# Altium integrated library SwitchingRegulator.IntLib: 17 symbols
Pins are listed as number, name and electrical type; pins without a type are passive.

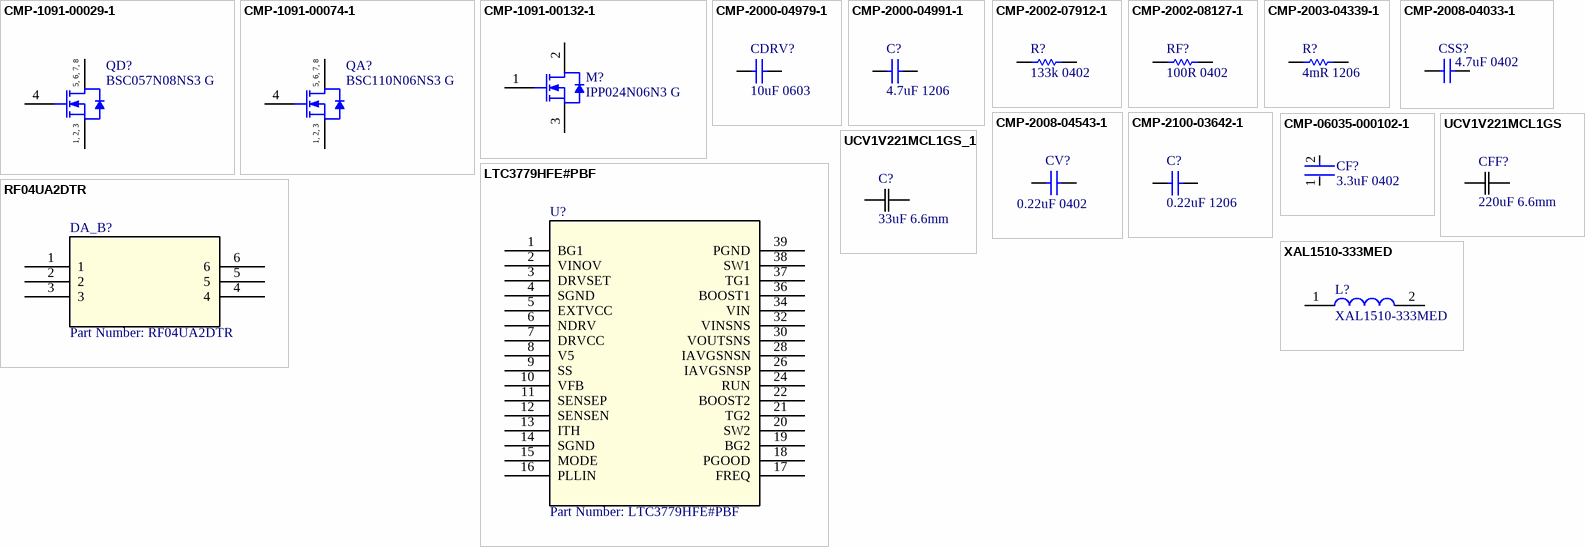
[diagram p0: symbols CMP-1091-00029-1 to XAL1510-333MED]

## CMP-1091-00029-1
designator QD?, comment BSC057N08NS3 G
N-Channel OptiMOS 3 Power-Transistor, 80 V VDS, 100 A ID, -55 to 150 degC, PG-TDSON-8-1, Reel, Green; Manufacturer: Infineon; Green: TRUE; Ptot (max): 114Â W; RDS (on) (max): 5.7Â mOhm; RthJC (max): 1.1Â K/W; QG: 42Â nC; Polarity: N; RthJA (max): 62Â K/W; IDpuls (max): 400Â A; VGS(th) (min): 2Â V; VGS(th) (max): 3.5Â V; VDS (max): 80Â V; ID (max): 100Â A; ComponentLink1Description: Manufacturer URL; DatasheetVersion: Rev. 2.4; ComponentLink3Description: Package Specification; PartNumber: BSC057N08NS3 G; PackageReference: PG-TDSON-8-1; PackageDescription: 8-Pin Plastic (Green) Thin Dual Small Outline Non-Leaded Package, 5.15 x 5.9 mm Body, 1.27 mm Pitch; Mounting Technology: Surface Mount; Packing: Reel; Halogen-free: TRUE; ComponentLink3URL: http://www.infineon.com/cms/packages/SMD_-_Surface_Mounted_Devices/P-PG-TDSON/P-PG-TDSON-08-01x_2x_3.html?__locale=en; ComponentLink2URL: http://www.infineon.com/dgdl/BSC057N08NS3G_rev2.4.pdf?folderId=db3a304313b8b5a60113cee8763b02d7&fileId=db3a30431add1d95011ae803c9345616; ComponentLink2Description: Datasheet; ComponentLink1URL: http://www.infineon.com/; Rth: 1.1Â K/W; Manufacturer Part Number: BSC057N08NS3G
footprint INF-PG-TDSON-8-1_V (TDSON, 8-Leads, Body 6.15x5.15mm, Pitch 1.27mm)
pins: 1 SOURCE, 2 SOURCE, 3 SOURCE, 4 GATE, 5 DRAIN, 6 DRAIN, 7 DRAIN, 8 DRAIN
text: 5, 6, 7, 8; 1, 2, 3

## CMP-1091-00074-1
designator QA?, comment BSC110N06NS3 G
N-Channel OptiMOS 3 Power-Transistor, 60 V VDS, 50 A ID, -55 to 150 degC, PG-TDSON-8-1, Reel, Green; Manufacturer: Infineon; RDS (on) (max): 11Â mOhm; ID (max): 50Â A; VGS(th) (max): 4Â V; RthJA (max): 62 K/W; Ptot (max): 50Â W; VGS(th) (min): 2Â V; VDS (max): 60Â V; QG: 25Â nC; IDpuls (max): 200Â A; Polarity: N; Rth: 2.5Â K/W; Green: TRUE; Packing: Reel; DatasheetVersion: Rev. 2.3; ComponentLink2URL: http://www.infineon.com/dgdl/BSC110N06NS3_Rev2.3.pdf?folderId=db3a30431ddc9372011ebafa04517f8b&fileId=db3a30431ddc9372011ebb0be43c7fe6; ComponentLink1Description: Manufacturer URL; PackageDescription: 8-Pin Plastic (Green) Thin Dual Small Outline Non-Leaded Package, 5.15 x 5.9 mm Body, 1.27 mm Pitch; ComponentLink3Description: Package Specification; PackageReference: PG-TDSON-8-1; ComponentLink1URL: http://www.infineon.com/; ComponentLink3URL: http://www.infineon.com/cms/packages/SMD_-_Surface_Mounted_Devices/P-PG-TDSON/P-PG-TDSON-08-01x_2x_3.html?__locale=en; ComponentLink2Description: Datasheet; Halogen-free: TRUE; PartNumber: BSC110N06NS3 G; Mounting Technology: Surface Mount; RthJC (max): 2.5Â K/W; Manufacturer Part Number: BSC110N06NS3G
footprint INF-PG-TDSON-8-1_V (TDSON, 8-Leads, Body 6.15x5.15mm, Pitch 1.27mm)
pins: 1 SOURCE, 2 SOURCE, 3 SOURCE, 4 GATE, 5 DRAIN, 6 DRAIN, 7 DRAIN, 8 DRAIN
text: 5, 6, 7, 8; 1, 2, 3

## CMP-1091-00132-1
designator M?, comment IPP024N06N3 G
N-Channel OptiMOS 3 Power-Transistor, 60 V VDS, 120 A ID, -55 to 175 degC, PG-TO220-3-1, Tube, Green; Manufacturer: Infineon; RDS (on) (max): 2.4Â mOhm; VGS(th) (max): 4Â V; VGS(th) (min): 2Â V; Polarity: N; Rth: 0.6Â K/W; IDpuls (max): 480Â A; Ptot (max): 250Â W; VDS (max): 60Â V; QG: 206Â nC; Green: TRUE; RthJA (max): 62Â K/W; ID (max): 120Â A; PackageDescription: 3-Pin Plastic (Green) Transistor Single Outline Package, 10.03 x 8.98 mm Body, 2.54 mm Pitch; ComponentLink2Description: Datasheet; ComponentLink2URL: http://www.infineon.com/dgdl/IPP024N06N3_Rev2.2.pdf?folderId=db3a304313b8b5a60113cee8763b02d7&fileId=db3a30432313ff5e01239f1f52a67151; PartNumber: IPP024N06N3 G; ComponentLink3Description: Package Specification; ComponentLink1Description: Manufacturer URL; Packing: Tube; ComponentLink3URL: http://www.infineon.com/dgdl/IPP028N08N3_Rev1%5B1%5D.0.pdf?folderId=db3a304313b8b5a60113cee8763b02d7&fileId=db3a30432313ff5e0123a3c08e7326b5; RthJC (max): 0.6Â K/W; PackageVersion: Rev. 05, 08/2007; ComponentLink1URL: http://www.infineon.com/; Halogen-free: TRUE; Mounting Technology: Through Hole; DatasheetVersion: Rev. 2.2; PackageReference: PG-TO220-3-1; Manufacturer Part Number: IPP024N06N3G
footprint INF-PG-TO220-3-1_A_V (FM, 3-Leads, Body 10.03x8.98mm, Pitch 2.54mm)
pins: 1 GATE, 2 DRAIN, 3 SOURCE

## CMP-2000-04979-1
designator CDRV?, comment 10uF 0603
Chip Capacitor, 10 uF, +/- 10%, 10 V, -55 to 85 degC, 0603 (1608 Metric), RoHS, Tape and Reel; PCN Part Number: MLCCPartNumberChange30/Nov/2012; Manufacturer: TDK; Manufacturer Part Number: C1608X5R1A106K080AC; Temperature Coefficient: X5R; Product Training Modules: CSeriesGeneralApplicationsSEAT,CCV,andTVCLDesignToolsGuidetoReplacinganElectrolyticCapacitorwithanMLCC; Online Catalog: CSeries,GeneralPurpose; Voltage - Rated: 10V; Other Names: 445-7486-1; Capacitance: 10µF; Design Resources: 20WNon-IsolatedBuckLEDDriverUsingPLLNK460KG; Kits: 445-9003-KIT-ND-KITCAPCERHICAPMLCCSMD; Height - Seated (Max): -; Family: CeramicCapacitors; Package Description: 2-Pin Surface Mount Device, Body 1.6 x 0.8 mm; Category: Capacitors; Datasheet Version: Mar-15; RoHS Information: RoHSCertificate-MLCC; Thickness (Max): 0.035"(0.90mm); Operating Temperature: -55degC~85degC; Package Reference: 603; Series: C; Applications: GeneralPurpose; Datasheet URL: http://download.siliconexpert.com/pdfs/2015/4/21/15/54/45/779/tdk_/manual/37024850441143360mlcc_commercial_general_en.pdf; Features: -; Lead Style: -; Lead Spacing: -; Ratings: -; Size / Dimension: 0.063"Lx0.031"W(1.60mmx0.80mm); Tolerance: ±10%; Mounting Type: SurfaceMount,MLCC; Standard Package: 1; Package / Case: 0603(1608Metric); Manufacturer URL: http://www.tdk.com/; Packaging: CutTape(CT)
footprint CAPC1608X90X20ML10 (Chip Capacitor, 2-Leads, Body 1.70x0.90mm, IPC Low Density)
footprint CAPC1608X90X20NL10 (Chip Capacitor, 2-Leads, Body 1.70x0.90mm, IPC Medium Density)
footprint CAPC1608X90X20LL10
pins: 1, 2

## CMP-2000-04991-1
designator C?, comment 4.7uF 1206
Chip Capacitor, 1 uF, +/- 10%, 25 V, -55 to 125 degC, 1206 (3216 Metric), RoHS, Tape and Reel; Manufacturer: Kemet; Manufacturer Part Number: C1206C105K3RACTU; Temperature Coefficient / Code: +/-15%; Capacitance: 1uF; Dielectric: X7R; Voltage Rating DC: 25V; Capacitance - nF: 1000nF; Class: Class1; Case Length: 3.2mm; Type: SMDMLCCX7R6.3-250VDCCommericalGrade; Case Width: 1.6mm; Product: GeneralTypeMLCCs; Datasheet URL: https://ciiva.com/datasheet-click-18194173?src=ciiva&sig=6daff8c4; Operating Temperature Range: -55Cto+125C; Series: C1206C; RoHS: Details; Product Category: MultilayerCeramicCapacitorsMLCC-SMD/SMT; Manufacturer URL: http://www.kemet.com/; Minimum Operating Temperature: -55C; Dimensions: 1.6mmWx3.2mmLx1.6mmH; Termination Style: SMD/SMT; Brand: Kemet; Packaging: Reel; Package / Case: 1206(3216metric); Case Code - mm: 3216; Datasheet Version: Jul-14; Factory Pack Quantity: 2000; Package Description: 2-Pin Surface Mount Device, Body 3.2 x 1.6 mm; Tolerance: 10%; Package Reference: 1206; Case Height: 1.6mm; Case Code - in: 1206; Maximum Operating Temperature: +125C; Voltage Rating: 25V; Manufacturer: KEMET
footprint CAPC3216X180X50ML20T25 (Chip Capacitor, 2-Leads, Body 3.40x1.80mm, IPC Low Density)
footprint CAPC3216X180X50NL20T25 (Chip Capacitor, 2-Leads, Body 3.20x1.60mm, IPC Medium Density)
footprint CAPC3216X180X50LL20T25 (Chip Capacitor, 2-Leads, Body 3.20x1.60mm, IPC High Density)
pins: 1, 2

## CMP-2002-07912-1
designator R?, comment 133k 0402
Manufacturer: Yageo / Phycomp; Part Number: RC0402JR-070RL; Manufacturer: Yageo; Manufacturer Part Number: RC0402JR-070RL
footprint RESC1005X40X25NL05T10 (Chip Resistor, 2-Leads, Body 1.00x0.50mm, IPC Medium Density)
footprint RESC1005X40X25ML05T10 (Chip Resistor, 2-Leads, Body 1.00x0.50mm, IPC Low Density)
footprint RESC1005X40X25LL05T10 (Chip Resistor, 2-Leads, Body 1.00x0.50mm, IPC High Density)
pins: 1, 2
1 alternate drawing of the same symbol

## CMP-2002-08127-1
designator RF?, comment 100R 0402
Part Number: CRCW0402100RFKED; Manufacturer: Vishay Dale; Manufacturer Part Number: CRCW0402100RFKED
footprint RESC1005X40X25NL05T05 (Chip Resistor, 2-Leads, Body 1.00x0.50mm, IPC Medium Density)
footprint RESC1005X40X25LL05T05 (Chip Resistor, 2-Leads, Body 1.00x0.50mm, IPC High Density)
footprint RESC1005X40X25ML05T05 (Chip Resistor, 2-Leads, Body 1.00x0.50mm, IPC Low Density)
pins: 1, 2
1 alternate drawing of the same symbol

## CMP-2003-04339-1
designator R?, comment 4mR 1206
Manufacturer: Vishay Dale; Part Number: WSL12064L000FEA; Manufacturer Part Number: WSL12064L000FEA
footprint RESC3216X89X51LL25T25 (Chip Resistor, 2-Leads, Body 3.20x1.60mm, IPC High Density)
footprint RESC3216X89X51ML25T25 (Chip Resistor, 2-Leads, Body 3.20x1.60mm, IPC Low Density)
footprint RESC3216X89X51NL25T25 (Chip Resistor, 2-Leads, Body 3.20x1.60mm, IPC Medium Density)
pins: 1, 2
1 alternate drawing of the same symbol

## CMP-2008-04033-1
designator CSS?, comment 4.7uF 0402
Part Number: GRM155R71H472KA01J; Manufacturer: Murata; Manufacturer Part Number: GRM155R71H472KA01J
footprint CAPC1005X55X25NL05T10 (Chip Capacitor, 2-Leads, Body 1.00x0.50mm, IPC Medium Density)
footprint CAPC1005X55X25LL05T10 (Chip Capacitor, 2-Leads, Body 1.00x0.50mm, IPC High Density)
footprint CAPC1005X55X25ML05T10 (Chip Capacitor, 2-Leads, Body 1.00x0.50mm, IPC Low Density)
pins: 1, 2
1 alternate drawing of the same symbol

## CMP-2008-04543-1
designator CV?, comment 0.22uF 0402
Part Number: GRM155R60J225ME15D; Manufacturer: Murata; Manufacturer Part Number: GRM155R60J225ME15D
footprint CAPC1005X55X25ML05T10 (Chip Capacitor, 2-Leads, Body 1.00x0.50mm, IPC Low Density)
footprint CAPC1005X55X25NL05T10 (Chip Capacitor, 2-Leads, Body 1.00x0.50mm, IPC Medium Density)
footprint CAPC1005X55X25LL05T10 (Chip Capacitor, 2-Leads, Body 1.00x0.50mm, IPC High Density)
pins: 1, 2
1 alternate drawing of the same symbol

## CMP-2100-03642-1
designator C?, comment 0.22uF 1206
Chip Capacitor, 10 nF, +/- 10%, 50 V, -55 to 125 degC, 0603 (1608 Metric), RoHS, Tape and Reel; Manufacturer: Murata; Manufacturer Part Number: GRM188R71H103KA01D; Insulation Resistance: 10GR; Dielectric: X7R; Voltage Rating: 50V; Capacitance: 10nF; Material: Ceramic; Package Quantity: 1; Lead Free: LeadFree; Case/Package: 0603; Termination: SMD/SMT; REACH SVHC: Unknown; Manufacturer URL: http://www.murata.com/; Datasheet URL: http://search.murata.co.jp/Ceramy/image/img/A01X/G101/ENG/GRM188R71H103KA01-01.pdf; Mount: SurfaceMount; Datasheet Version: 42401.0; Number of Pins: 2; Length: 1.6mm; Voltage: 50V; Depth: 0.8mm; Tolerance: 10%; Min Operating Temperature: -55degC; Voltage Rating (DC): 50V; Max Operating Temperature: 125degC; Package Description: 2-Pin Surface Mount Device, Body 1.6 x 0.8 mm; RoHSCompliant: True; Case Code (Imperial): 0603; Width: 0.031inch; Case Code (Metric): 1608; Height: 0.8mm; Package Reference: 0603; Packaging: TapeandReel; Thickness: 0.035inch; Dielectric Material: Ceramic
footprint CAPC1608X90X35ML10T15 (Chip Capacitor, 2-Leads, Body 1.7x0.9mm, IPC Low Density)
footprint CAPC1608X90X35NL10T15 (Chip Capacitor, 2-Leads, Body 1.7x0.9mm, IPC Medium Density)
footprint CAPC1608X90X35LL10T15
pins: 1, 2

## CMP-06035-000102-1
designator CF?, comment 3.3uF 0402
CAP CER 0.1UF 16V X7R 0402; Manufacturer Part Number: GRM155R71C104KA88D; Manufacturer: Murata; Standoff Height: 0mm; Tolerance: 10%; Voltage Rating: 16Vdc; Capacitance: 0.10μF; Value: 0.10μF; RoHS: TRUE; Temperature Characteristic: X7R; Octopart: https://octopart.com/grm155r71c104ka88d-murata-196880; Digikey Description: CAP CER 0.1UF 16V X7R 0402; Device Class L3: Ceramic Capacitors; Height: 0.55mm; ComponentLink2Description: Datasheet; Temperature Range Low: -55°C; Ipc Land Pattern Name: CAPC10050X219; ComponentLink2URL: https://search.murata.co.jp/Ceramy/image/img/A01X/G101/ENG/GRM155R71H471KA01-01A.pdf; Device Class L1: Passive Components; Lead Free: yes; Category: Cap; Package: GRM15; Temperature: -55°C to +125°C; Device Class L2: Capacitors; Material: Ceramic; Temperature Range High: +125°C; Mouser Description: 0402 0.1 uF 16V ±10 % Tolerance X7R SMT Multilayer Ceramic Capacitor
footprint FP-GRM15-MFG
footprint FP-GRM15-IPC_C
footprint FP-GRM15-IPC_B
footprint FP-GRM15-IPC_A
pins: 1, 2

## LTC3779HFE#PBF
designator U?, comment Part Number: LTC3779HFE#PBF
No Description Available; Built_By: EMA_Jessica; Vendor: Analog Devices Inc; SourceLibrary: Analog_Devices_2018-09-28; Copyright: Copyright (C) 2016 Accelerated Designs. All rights reserved; Manufacturer_Part_Number: LTC3779HFE#PBF; RefDes: RefDes; Type: DEV; Value: Value
footprint FE_38
pins: 1 BG1, 2 VINOV, 3 DRVSET, 4 SGND, 5 EXTVCC, 6 NDRV, 7 DRVCC, 8 V5, 9 SS, 10 VFB, 11 SENSEP, 12 SENSEN, 13 ITH, 14 SGND, 15 MODE, 16 PLLIN, 17 FREQ, 18 PGOOD, 19 BG2, 20 SW2, 21 TG2, 22 BOOST2, 24 RUN, 26 IAVGSNSP, 28 IAVGSNSN, 30 VOUTSNS, 32 VINSNS, 34 VIN, 36 BOOST1, 37 TG1, 38 SW1, 39 PGND

## RF04UA2DTR
designator DA_B?, comment Part Number: RF04UA2DTR
No Description Available; Vendor: ROHM Semiconductor; Built_By: EMA_Matt; SourceLibrary: Rohm_2019-09-23; Manufacturer_Part_Number: RF04UA2DTR; Copyright: Copyright (C) 2018 Accelerated Designs. All rights reserved; RefDes: RefDes; Type: DEV; Value: Value
footprint DIO_RF04UA
pins: 1, 2, 3, 4, 5, 6

## UCV1V221MCL1GS
designator CFF?, comment 220uF 6.6mm
No Description Available; Manufacturer_Part_Number: UCV1V221MCL1GS; Vendor: Nichicon; Built_By: EMA_Cory; SourceLibrary: Nichicon_2019-09-13; Copyright: Copyright (C) 2018 Accelerated Designs. All rights reserved; RefDes: RefDes; Type: DEV; Value: Value
footprint CAP_UCD_6P3X7P7_
pins: 1, 2

## UCV1V221MCL1GS_1
designator C?, comment 33uF 6.6mm
No Description Available; Manufacturer_Part_Number: UCV1V221MCL1GS; Vendor: Nichicon; Built_By: EMA_Cory; SourceLibrary: Nichicon_2019-09-13; Type: DEV; Copyright: Copyright (C) 2018 Accelerated Designs. All rights reserved; RefDes: RefDes; Value: Value
footprint CAP_UCD_6P3X7P7_
pins: 1, 2

## XAL1510-333MED
designator L?
Inductor; Manufacturer_Name: COILCRAFT; Datasheet Link: https://componentsearchengine.com/Datasheets/1/XAL1510-333MED.pdf; Height: 11mm; Manufacturer_Part_Number: XAL1510-333MED; Mouser Part Number: 994-XAL1510-333MED; Mouser Price/Stock: https://www.mouser.co.uk/ProductDetail/Coilcraft/XAL1510-333MED?qs=41NYZ3YTmyrK05bz6y0tWA%3D%3D
footprint XAL1510333MED
pins: 1, 2